# Altium footprint library DPAK.PcbLib: 1 footprints
Each footprint in its own frame and in the unit in brackets; x right, y up, seen from the top. Pads: shape width x height; smd on the part's side, far side on the other; paste and mask are expansions set on the pad; w line width, h text height; cw(c..) or ccw(c..) is an arc to the next point about the centre after c.
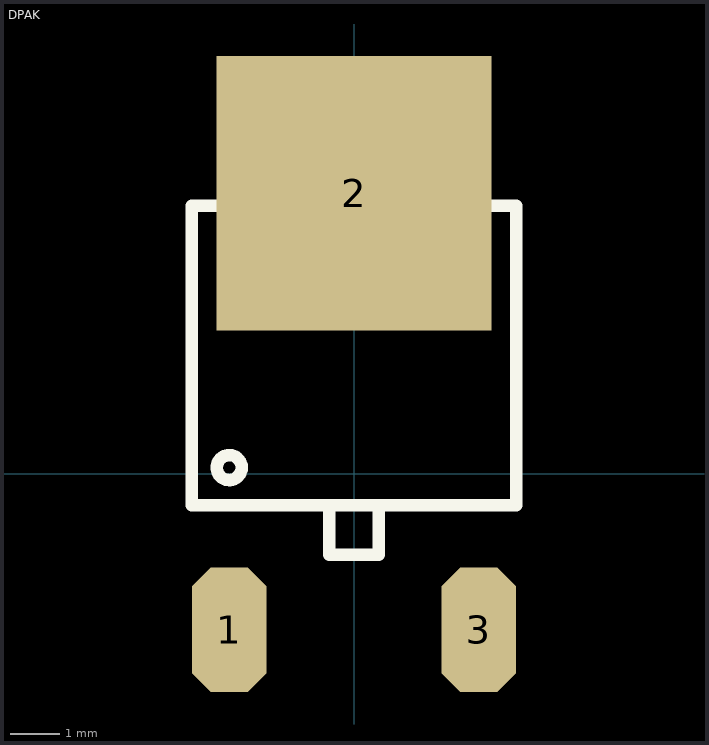
[diagram p0: the footprint, top view; thin cyan lines are the x and y axes]

## DPAK [mil] "DPAK"
pads (3):
  oct 60x100 smd: 1(-100,-125) 3(100,-125)
  rect 220x220 smd: 2(0,225)
Top Overlay:
  circle w10: c-100,5 r10
  lines w10: -20,-25 -20,-65 20,-65 20,-25 ; -130,-25 130,-25 130,205 130,215 -130,215 -130,-25